# Altium footprint library Inductors.PcbLib: 2 footprints
Each footprint in its own frame and in the unit in brackets; x right, y up, seen from the top. Pads: shape width x height; smd on the part's side, far side on the other; paste and mask are expansions set on the pad; w line width, h text height; cw(c..) or ccw(c..) is an arc to the next point about the centre after c.
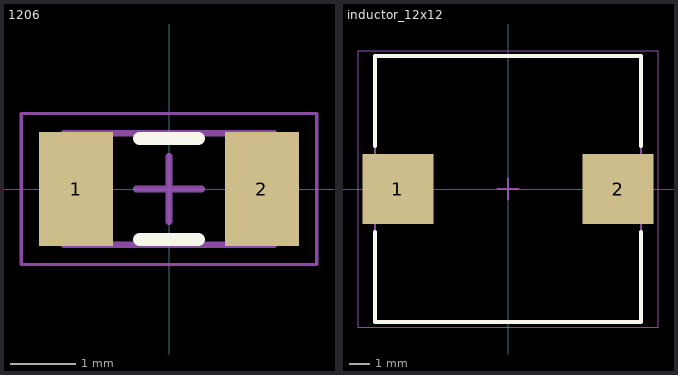
[diagram p0: the footprints below, top view; thin cyan lines are the x and y axes]

## 1206 [mm]
height 2
pads (2):
  rect 1.13x1.74 smd: 1(-1.415,0) 2(1.415,0)
Top Overlay:
  lines w0.2: -0.45,-0.77 0.45,-0.77 ; -0.45,0.77 0.45,0.77
Top Assy:
  lines w0.1: -1.6,-0.85 1.6,-0.85 1.6,0.85 -1.6,0.85 -1.6,-0.85
Top ConturComponent:
  lines w0.05: -2.25,-1.15 2.25,-1.15 2.25,1.15 -2.25,1.15 -2.25,-1.15
  lines w0.1: -0.5,0 0.5,0 ; 0,-0.5 0,0.5
3D body "1206.step": height 1.5, standoff 0, extent -1.6,-0.8 1.6,0.8

## inductor_12x12 [mm] "Precision Wire Wound Inductor, 2-Leads, Body 12,70x12,70mm"
height 4.7
pads (2):
  rect 3.4x3.35 smd: 1(-5.3,0) 2(5.3,0)
Top Overlay:
  lines w0.2: -6.4,-2.075 -6.4,-6.4 6.4,-6.4 6.4,-2.075 ; -6.4,2.075 -6.4,6.4 6.4,6.4 6.4,2.075
Top Assy:
  lines w0.1: -6.4,-6.4 -6.4,6.4 6.4,6.4 6.4,-6.4 -6.4,-6.4
Top ConturComponent:
  lines w0.05: -7.225,-6.65 -7.225,6.65 7.225,6.65 7.225,-6.65 -7.225,-6.65
  lines w0.1: -0.5,0 0.5,0 ; 0,-0.5 0,0.5
3D body "inductor_12x12.step": height 4.8, standoff 0, extent -6.45,-6.35 6.45,6.35